# Altium footprint library eGPU Solusions Package.PcbLib: 47 footprints (part 2 of 3)
Each footprint in its own frame and in the unit in brackets; x right, y up, seen from the top. Pads: shape width x height; smd on the part's side, far side on the other; paste and mask are expansions set on the pad; w line width, h text height; cw(c..) or ccw(c..) is an arc to the next point about the centre after c.
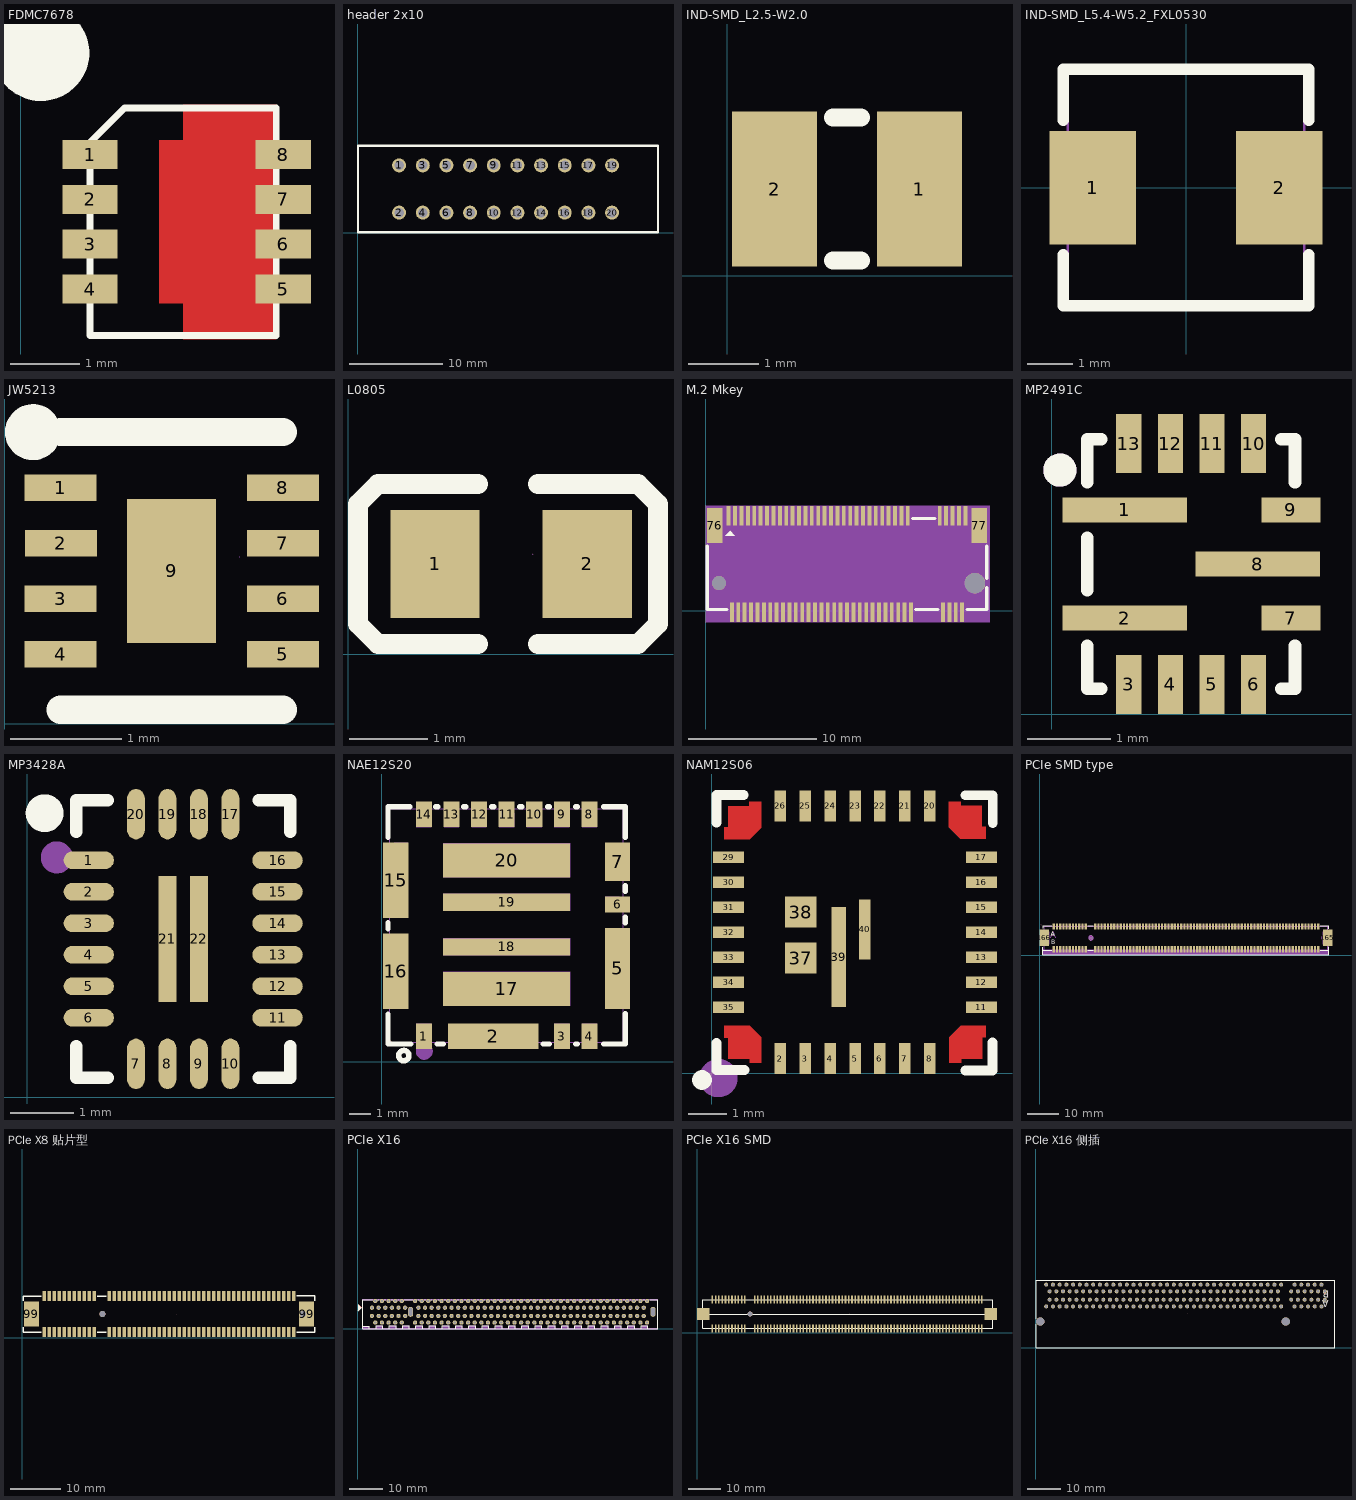
[diagram p1: the footprints below, top view; thin cyan lines are the x and y axes]

## FDMC7678 [mm]
pads (8):
  rect 0.8x0.42 smd: 1(1.006,2.965) 2(1.006,2.315) 3(1.006,1.665) 4(1.006,1.015) 5(3.806,1.015) 6(3.806,1.665) 7(3.806,2.315) 8(3.806,2.965)
Top Layer:
  region: 3.706,3.69 3.706,0.29 2.356,0.29 2.356,3.69
  region: 3.706,3.175 3.706,0.805 2.006,0.805 2.006,3.175
Top Overlay:
  circle w1: c0.293,4.442 r0.2
  lines w0.1: 1.006,0.34 1.006,3.14 1.506,3.64 3.706,3.64 3.706,0.34 1.006,0.34

## header 2x10 [mm]
pads (20):
  round 1.5 hole 1 mask+0.102: 1(4.466,7.216) 2(4.466,2.136) 3(7.006,7.216) 4(7.006,2.136) 5(9.546,7.216) 6(9.546,2.136) 7(12.086,7.216) 8(12.086,2.136) 9(14.626,7.216) 10(14.626,2.136) 11(17.166,7.216) 12(17.166,2.136) 13(19.706,7.216) 14(19.706,2.136) 15(22.246,7.216) 16(22.246,2.136) 17(24.786,7.216) 18(24.786,2.136) 19(27.326,7.216) 20(27.326,2.136)
Top Overlay:
  lines w0.254: 0.051,0.051 0.051,9.301 32.258,9.301 32.258,0.051 0.051,0.051

## IND-SMD_L2.5-W2.0 [mm]
pads (2):
  rect 1.2x2.2 smd paste+0 mask+0.051: 1(2.724,1.227) 2(0.668,1.227)
Top Overlay:
  lines w0.254: 1.499,0.211 1.893,0.211 ; 1.499,2.243 1.893,2.243

## IND-SMD_L5.4-W5.2_FXL0530 [mm]
pads (2):
  rect 1.9x2.5 smd: 1(-2.05,0) 2(2.05,0)
Top Overlay:
  lines w0.254: -2.7,-1.481 -2.7,-2.6 2.7,-2.6 2.7,-1.481 ; -2.7,1.481 -2.7,2.6 2.7,2.6 2.7,1.481
Mechanical 15:
  region: 2.7,-1.1 1.5,-1.1 1.5,1.1 2.7,1.1
  region: -2.7,1.1 -1.5,1.1 -1.5,-1.1 -2.7,-1.1
  region: -2.64,-2.6 -2.64,-2.575 -2.675,-2.54 -2.725,-2.54 -2.76,-2.575 -2.76,-2.6 -2.76,-2.625 -2.725,-2.66 -2.675,-2.66 -2.64,-2.625 -2.64,-2.6
  lines w0.051: -2.6,-2.6 -2.6,2.6 2.6,2.6 2.6,-2.6 -2.6,-2.6

## JW5213 [mm]
pads (9):
  rect 0.65x0.24 smd: 1(0.502,2.127) 2(0.504,1.625) 3(0.502,1.127) 4(0.502,0.627) 5(2.504,0.625) 6(2.504,1.126) 7(2.504,1.625) 8(2.504,2.126)
  rect 0.8x1.3 smd: 9(1.502,1.377)
Top Overlay:
  circle w0.254: c0.252,2.627 r0.125
  lines w0.254: 0.502,0.127 2.502,0.127 ; 0.502,2.627 2.502,2.627
Mechanical 15:
  lines w0.003: 2.113,1.504 2.113,1.504

## L0805 [mm]
pads (2):
  rect 1.133x1.377 smd: 1(1.106,1.143) 2(3.038,1.143)
Top Overlay:
  lines w0.254: 1.651,0.127 0.381,0.127 0.127,0.381 0.127,0.508 0.127,1.905 0.381,2.159 0.508,2.159 1.651,2.159 ; 2.413,0.127 3.556,0.127 3.683,0.127 3.937,0.381 3.937,1.778 3.937,1.905 3.683,2.159 2.413,2.159
Top Paste:
  region: 1.712,0.923 1.712,1.363 1.327,1.832 0.64,1.832 0.54,1.732 0.54,0.555 0.64,0.455 1.327,0.455
  region: 2.432,0.923 2.432,1.363 2.817,1.832 3.505,1.832 3.605,1.732 3.605,0.555 3.505,0.455 2.817,0.455
Mechanical 15:
  lines w0.003: 2.349,1.27 2.35,1.27

## M.2 Mkey [mm]
pads (71):
  rect 0.3x1.55 smd: 1(1.799,7.436) 2(2.049,-0.114) 3(2.299,7.436) 4(2.549,-0.114) 5(2.799,7.436) 6(3.049,-0.114) 7(3.299,7.436) 8(3.549,-0.114) 9(3.799,7.436) 10(4.049,-0.114) 11(4.299,7.436) 12(4.549,-0.114) 13(4.799,7.436) 14(5.049,-0.114) 15(5.299,7.436) 16(5.549,-0.114) 17(5.799,7.436) 18(6.049,-0.114) 19(6.299,7.436) 20(6.549,-0.114) 21(6.799,7.436) 22(7.049,-0.114) 23(7.299,7.436) 24(7.549,-0.114) 25(7.799,7.436) 26(8.049,-0.114) 27(8.299,7.436) 28(8.549,-0.114) 29(8.799,7.436) 30(9.049,-0.114) 31(9.299,7.436) 32(9.549,-0.114) 33(9.799,7.436) 34(10.049,-0.114) 35(10.299,7.436) 36(10.549,-0.114) 37(10.799,7.436) 38(11.049,-0.114) 39(11.299,7.436) 40(11.549,-0.114) 41(11.799,7.436) 42(12.049,-0.114) 43(12.299,7.436) 44(12.549,-0.114) 45(12.799,7.436) 46(13.049,-0.114) 47(13.299,7.436) 48(13.549,-0.114) 49(13.799,7.436) 50(14.049,-0.114) 51(14.299,7.436) 52(14.549,-0.114) 53(14.799,7.436) 54(15.049,-0.114) 55(15.299,7.436) 56(15.549,-0.114) 57(15.799,7.436) 58(16.049,-0.114) 67(18.299,7.436) 68(18.549,-0.114) 69(18.799,7.436) 70(19.049,-0.114) 71(19.299,7.436) 72(19.549,-0.114) 73(19.799,7.436) 74(20.049,-0.114) 75(20.299,7.436)
  rect 1.2x2.75 smd: 76(0.699,6.661) 77(21.399,6.661)
  round 1.1 hole 1.1 unplated: ""(1.049,2.161)
  round 1.6 hole 1.6 unplated: ""(21.049,2.161)
Top Overlay:
  region: 1.905,6.264 1.524,5.883 2.286,5.883
  lines w0.254: 0.127,5.055 0.127,0.105 1.668,0.105 ; 16.18,7.217 17.918,7.217 ; 16.43,0.105 18.168,0.105 ; 20.43,0.105 21.971,0.105 21.971,1.797 ; 21.971,2.525 21.971,5.055
Mechanical 4:
  circle w0.8: c21.049,2.161 r0.4
  circle w0.55: c1.049,2.161 r0.275
  region: 0,8.211 22.205,8.211 22.205,-0.889 0,-0.889
Mechanical 5:
  drawing of 71 lines, arcs and shapes, not listed
Mechanical 15:
  lines w0.003: 11.077,4.148 11.128,4.199

## MP2491C [mil]
pads (13):
  rect 59x12 smd: 1(34.63,96.69) 2(34.63,45.49) 8(97.71,71.09)
  rect 12x28 smd: 3(36.64,14) 4(56.33,14) 5(76.01,14) 6(95.7,14) 10(95.7,128.18) 11(76.01,128.18) 12(56.33,128.18) 13(36.64,128.18)
  rect 28x12 smd: 7(113.41,45.49) 9(113.41,96.69)
Top Overlay:
  circle w7.87: c3.94,115.58 r3.94
  lines w5.98: 16.93,32.4 16.93,12.04 23.55,12.04 ; 16.93,58.58 16.93,83.6 ; 16.93,109.78 16.93,130.15 23.55,130.15 ; 108.79,12.04 115.36,12.04 115.36,32.4 ; 108.79,130.15 114.97,130.15 ; 115.36,109.78 115.36,130.15
Mechanical 15:
  circle w7.87: c3.94,115.58 r3.94

## MP3428A [mm]
pads (22):
  oval 0.8x0.28 smd: 1(0.978,3.758) 2(0.978,3.258) 3(0.978,2.758) 4(0.978,2.258) 5(0.978,1.758) 6(0.978,1.258) 11(3.975,1.258) 12(3.975,1.758) 13(3.975,2.258) 14(3.975,2.758) 15(3.975,3.258) 16(3.975,3.758)
  oval 0.28x0.8 smd: 7(1.727,0.527) 8(2.227,0.527) 9(2.727,0.527) 10(3.227,0.527) 17(3.227,4.489) 18(2.727,4.489) 19(2.227,4.489) 20(1.727,4.489)
  rect 0.28x2 smd: 21(2.227,2.508) 22(2.727,2.508)
Top Overlay:
  lines w0.2: 0.777,0.808 0.777,0.308 1.277,0.308 ; 0.777,4.208 0.777,4.708 1.277,4.708 ; 3.677,0.308 4.177,0.308 4.177,0.808 ; 3.677,4.708 4.177,4.708 4.177,4.208
  lines w0.3: 0.427,4.505 cw(c0.277,4.506) 0.427,4.507
Mechanical 15:
  circle w0.254: c0.47,3.804 r0.127

## NAE12S20 [mm]
pads (20):
  rect 0.762x1.19 smd mask+0.05: 1(1.993,1.201) 3(8.493,1.201) 4(9.793,1.201) 8(9.793,11.651) 9(8.493,11.651) 10(7.193,11.651) 11(5.893,11.651) 12(4.593,11.651) 13(3.293,11.651) 14(1.993,11.651)
  rect 4.24x1.19 smd mask+0.05: 2(5.262,1.201)
  rect 1.195x3.81 smd mask+0.05: 5(11.116,4.401)
  rect 1.195x0.751 smd mask+0.05: 6(11.116,7.411)
  rect 1.195x1.82 smd mask+0.05: 7(11.116,9.425)
  rect 1.195x3.556 smd mask+0.05: 15(0.671,8.557) 16(0.67,4.258)
  rect 5.99x1.6 smd mask+0.05: 17(5.893,3.436) 20(5.893,9.486)
  rect 5.99x0.81 smd mask+0.05: 18(5.893,5.411) 19(5.893,7.511)
Top Overlay:
  circle w0.254: c1.049,0.289 r0.244
  lines w0.254: 0.305,2.249 0.305,0.838 1.387,0.838 ; 0.305,6.267 0.305,6.548 ; 0.305,10.566 0.305,12.014 1.333,12.014 ; 2.557,12.014 2.649,12.014 ; 2.611,0.838 2.911,0.838 ; 3.873,12.014 3.965,12.014 ; 5.189,12.014 5.281,12.014 ; 6.505,12.014 6.597,12.014 ; 7.613,0.838 7.913,0.838 ; 7.821,12.014 7.913,12.014 ; 9.137,0.838 9.229,0.838 ; 9.137,12.014 9.229,12.014 ; 10.453,0.838 11.481,0.838 11.481,2.265 ; 10.453,12.014 11.481,12.014 11.481,10.566 ; 11.481,6.537 11.481,6.804 ; 11.481,8.017 11.481,8.284
Mechanical 6:
  circle w0.4: c2.015,0.492 r0.2
Mechanical 15:
  region: 10.543,7.061 10.543,7.761 11.193,7.761 11.193,7.061
  region: 3.162,1.776 7.362,1.776 7.362,1.126 3.162,1.126
  region: 2.898,2.636 2.898,4.236 8.888,4.236 8.888,2.636
  region: 8.888,5.006 2.898,5.006 2.898,5.816 8.888,5.816
  region: 8.888,7.106 2.898,7.106 2.898,7.916 8.888,7.916
  region: 2.898,8.686 2.898,10.286 8.888,10.286 8.888,8.686
  region: 10.543,6.276 11.193,6.276 11.193,2.526 10.543,2.526
  region: 10.543,10.3 11.193,10.3 11.193,8.55 10.543,8.55
  region: 0.593,6.008 1.243,6.008 1.243,2.508 0.593,2.508
  region: 0.593,10.307 1.243,10.307 1.243,6.807 0.593,6.807
  region: 9.443,1.151 9.443,1.801 10.143,1.801 10.143,1.151
  region: 8.143,1.151 8.143,1.801 8.843,1.801 8.843,1.151
  region: 1.643,1.151 1.643,1.801 2.343,1.801 2.343,1.151
  region: 9.443,11.051 9.443,11.701 10.143,11.701 10.143,11.051
  region: 1.643,11.051 1.643,11.701 2.343,11.701 2.343,11.051
  region: 2.943,11.051 2.943,11.701 3.643,11.701 3.643,11.051
  region: 4.243,11.051 4.243,11.701 4.943,11.701 4.943,11.051
  region: 5.543,11.051 5.543,11.701 6.243,11.701 6.243,11.051
  region: 6.843,11.051 6.843,11.701 7.543,11.701 7.543,11.051
  region: 8.143,11.051 8.143,11.701 8.843,11.701 8.843,11.051
  region: 0.393,0.866 0.418,0.866 0.453,0.901 0.453,0.951 0.418,0.986 0.393,0.986 0.368,0.986 0.333,0.951 0.333,0.901 0.368,0.866
  lines w0.051: 0.393,0.926 11.393,0.926 11.393,11.926 0.393,11.926 0.393,0.926

## NAM12S06 [mm]
pads (32):
  rect 0.3x0.81 smd: 2(1.789,0.374) 3(2.439,0.374) 4(3.089,0.374) 5(3.739,0.374) 6(4.389,0.374) 7(5.039,0.374) 8(5.689,0.374) 20(5.689,6.964) 21(5.039,6.964) 22(4.389,6.964) 23(3.739,6.964) 24(3.089,6.964) 25(2.439,6.964) 26(1.789,6.964)
  rect 0.81x0.3 smd: 11(7.034,1.719) 12(7.034,2.369) 13(7.034,3.019) 14(7.034,3.669) 15(7.034,4.319) 16(7.034,4.969) 17(7.034,5.619) 29(0.444,5.619) 30(0.444,4.969) 31(0.444,4.319) 32(0.444,3.669) 33(0.444,3.019) 34(0.444,2.369) 35(0.444,1.719)
  rect 0.81x0.81 smd: 37(2.324,2.994) 38(2.324,4.194)
  rect 0.39x2.6 smd: 39(3.314,3.024)
  rect 0.3x1.57 smd: 40(3.989,3.744)
Top Layer:
  region: 6.179,7.069 6.179,6.409 6.479,6.109 7.149,6.109 7.149,6.419 7.049,6.419 7.039,6.419 7.039,6.429 7.039,6.969 6.499,6.969 6.489,6.969 6.489,6.979 6.489,7.069
  region: 1.299,0.269 1.299,0.929 0.999,1.229 0.329,1.229 0.329,0.919 0.429,0.919 0.439,0.919 0.439,0.909 0.439,0.369 0.979,0.369 0.989,0.369 0.989,0.359 0.989,0.269
  region: 0.329,6.099 0.989,6.099 1.289,6.399 1.289,7.069 0.979,7.069 0.979,6.969 0.979,6.959 0.969,6.959 0.429,6.959 0.429,6.419 0.429,6.409 0.419,6.409 0.329,6.409
  region: 7.152,1.239 6.492,1.239 6.192,0.939 6.192,0.269 6.502,0.269 6.502,0.369 6.502,0.379 6.512,0.379 7.052,0.379 7.052,0.919 7.052,0.929 7.062,0.929 7.152,0.929
Top Overlay:
  circle w0.254: c-0.251,-0.181 r0.13
  lines w0.254: 0.129,0.785 0.129,0.079 0.856,0.079 ; 0.129,6.522 0.129,7.249 0.835,7.249 ; 6.612,0.069 7.319,0.069 7.319,0.796 ; 6.619,7.239 7.326,7.239 7.326,6.512
Top Paste:
  region: 6.179,7.069 6.179,6.409 6.479,6.109 7.149,6.109 7.149,6.419 7.049,6.419 7.039,6.419 7.039,6.429 7.039,6.969 6.499,6.969 6.489,6.969 6.489,6.979 6.489,7.069
  region: 1.299,0.269 1.299,0.929 0.999,1.229 0.329,1.229 0.329,0.919 0.429,0.919 0.439,0.919 0.439,0.909 0.439,0.369 0.979,0.369 0.989,0.369 0.989,0.359 0.989,0.269
  region: 0.329,6.099 0.989,6.099 1.289,6.399 1.289,7.069 0.979,7.069 0.979,6.969 0.979,6.959 0.969,6.959 0.429,6.959 0.429,6.419 0.429,6.409 0.419,6.409 0.329,6.409
  region: 7.152,1.239 6.492,1.239 6.192,0.939 6.192,0.269 6.502,0.269 6.502,0.369 6.502,0.379 6.512,0.379 7.052,0.379 7.052,0.919 7.052,0.929 7.062,0.929 7.152,0.929
Top Solder:
  region: 6.179,7.069 6.179,6.409 6.479,6.109 7.149,6.109 7.149,6.419 7.049,6.419 7.039,6.419 7.039,6.429 7.039,6.969 6.499,6.969 6.489,6.969 6.489,6.979 6.489,7.069
  region: 1.299,0.269 1.299,0.929 0.999,1.229 0.329,1.229 0.329,0.919 0.429,0.919 0.439,0.919 0.439,0.909 0.439,0.369 0.979,0.369 0.989,0.369 0.989,0.359 0.989,0.269
  region: 0.329,6.099 0.989,6.099 1.289,6.399 1.289,7.069 0.979,7.069 0.979,6.969 0.979,6.959 0.969,6.959 0.429,6.959 0.429,6.419 0.429,6.409 0.419,6.409 0.329,6.409
  region: 7.152,1.239 6.492,1.239 6.192,0.939 6.192,0.269 6.502,0.269 6.502,0.369 6.502,0.379 6.512,0.379 7.052,0.379 7.052,0.919 7.052,0.929 7.062,0.929 7.152,0.929
Mechanical 15:
  circle w0.5: c0.179,-0.131 r0.25

## PCIe SMD type [mm]
pads (166):
  rect 3x5.2 smd mask+0.051: 165(90.5,5.407) 166(1.5,5.407)
  rect 0.7x2 smd mask+0.051: A1(4.5,9.007) A2(5.5,9.007) A3(6.5,9.007) A4(7.5,9.007) A5(8.5,9.007) A6(9.5,9.007) A7(10.5,9.007) A8(11.5,9.007) A9(12.5,9.007) A10(13.5,9.007) A11(14.5,9.007) A12(17.5,9.007) A13(18.5,9.007) A14(19.5,9.007) A15(20.5,9.007) A16(21.5,9.007) A17(22.5,9.007) A18(23.5,9.007) A19(24.5,9.007) A20(25.5,9.007) A21(26.5,9.007) A22(27.5,9.007) A23(28.5,9.007) A24(29.5,9.007) A25(30.5,9.007) A26(31.5,9.007) A27(32.5,9.007) A28(33.5,9.007) A29(34.5,9.007) A30(35.5,9.007) A31(36.5,9.007) A32(37.5,9.007) A33(38.5,9.007) A34(39.5,9.007) A35(40.5,9.007) A36(41.5,9.007) A37(42.5,9.007) A38(43.5,9.007) A39(44.5,9.007) A40(45.5,9.007) A41(46.5,9.007) A42(47.5,9.007) A43(48.5,9.007) A44(49.5,9.007) A45(50.5,9.007) A46(51.5,9.007) A47(52.5,9.007) A48(53.5,9.007) A49(54.5,9.007) A50(55.5,9.007) A51(56.5,9.007) A52(57.5,9.007) A53(58.5,9.007) A54(59.5,9.007) A55(60.5,9.007) A56(61.5,9.007) A57(62.5,9.007) A58(63.5,9.007) A59(64.5,9.007) A60(65.5,9.007) A61(66.5,9.007) A62(67.5,9.007) A63(68.5,9.007) A64(69.5,9.007) A65(70.5,9.007) A66(71.5,9.007) A67(72.5,9.007) A68(73.5,9.007) A69(74.5,9.007) A70(75.5,9.007) A71(76.5,9.007) A72(77.5,9.007) A73(78.5,9.007) A74(79.5,9.007) A75(80.5,9.007) A76(81.5,9.007) A77(82.5,9.007) A78(83.5,9.007) A79(84.5,9.007) A80(85.5,9.007) A81(86.5,9.007) A82(87.5,9.007) B1(4.5,1.807) B2(5.5,1.807) B3(6.5,1.807) B4(7.5,1.807) B5(8.5,1.807) B6(9.5,1.807) B7(10.5,1.807) B8(11.5,1.807) B9(12.5,1.807) B10(13.5,1.807) B11(14.5,1.807) B12(17.5,1.807) B13(18.5,1.807) B14(19.5,1.807) B15(20.5,1.807) B16(21.5,1.807) B17(22.5,1.807) B18(23.5,1.807) B19(24.5,1.807) B20(25.5,1.807) B21(26.5,1.807) B22(27.5,1.807) B23(28.5,1.807) B24(29.5,1.807) B25(30.5,1.807) B26(31.5,1.807) B27(32.5,1.807) B28(33.5,1.807) B29(34.5,1.807) B30(35.5,1.807) B31(36.5,1.807) B32(37.5,1.807) B33(38.5,1.807) B34(39.5,1.807) B35(40.5,1.807) B36(41.5,1.807) B37(42.5,1.807) B38(43.5,1.807) B39(44.5,1.807) B40(45.5,1.807) B41(46.5,1.807) B42(47.5,1.807) B43(48.5,1.807) B44(49.5,1.807) B45(50.5,1.807) B46(51.5,1.807) B47(52.5,1.807) B48(53.5,1.807) B49(54.5,1.807) B50(55.5,1.807) B51(56.5,1.807) B52(57.5,1.807) B53(58.5,1.807) B54(59.5,1.807) B55(60.5,1.807) B56(61.5,1.807) B57(62.5,1.807) B58(63.5,1.807) B59(64.5,1.807) B60(65.5,1.807) B61(66.5,1.807) B62(67.5,1.807) B63(68.5,1.807) B64(69.5,1.807) B65(70.5,1.807) B66(71.5,1.807) B67(72.5,1.807) B68(73.5,1.807) B69(74.5,1.807) B70(75.5,1.807) B71(76.5,1.807) B72(77.5,1.807) B73(78.5,1.807) B74(79.5,1.807) B75(80.5,1.807) B76(81.5,1.807) B77(82.5,1.807) B78(83.5,1.807) B79(84.5,1.807) B80(85.5,1.807) B81(86.5,1.807) B82(87.5,1.807)
Top Overlay:
  lines w0.254: 1.05,1.547 3.919,1.547 ; 1.05,2.477 1.05,0.147 90.84,0.147 ; 1.18,8.407 1.18,9.297 3.919,9.297 ; 15.081,1.547 16.919,1.547 ; 15.081,9.297 16.919,9.297 ; 88.081,1.547 90.84,1.547 90.84,0.147 ; 88.081,9.297 90.81,9.297 90.81,8.277 ; 90.84,2.637 90.84,0.147
  text "A" at 3.5,5.853 h1.33
  text "B" at 3.631,3.405 h1.33
Keep-Out Layer:
  board cut-out: 16.85,5.407 16.85,5.499 16.802,5.677 16.71,5.837 16.58,5.967 16.42,6.059 16.242,6.107 16.058,6.107 15.88,6.059 15.72,5.967 15.59,5.837 15.498,5.677 15.45,5.499 15.45,5.407 15.45,5.315 15.498,5.137 15.59,4.977 15.72,4.847 15.88,4.755 16.058,4.707 16.242,4.707 16.42,4.755 16.58,4.847 16.71,4.977 16.802,5.137 16.85,5.315
  board cut-out: 90,5.407 90,5.499 89.952,5.677 89.86,5.837 89.73,5.967 89.57,6.059 89.392,6.107 89.208,6.107 89.03,6.059 88.87,5.967 88.74,5.837 88.648,5.677 88.6,5.499 88.6,5.407 88.6,5.315 88.648,5.137 88.74,4.977 88.87,4.847 89.03,4.755 89.208,4.707 89.392,4.707 89.57,4.755 89.73,4.847 89.86,4.977 89.952,5.137 90,5.315
Mechanical 1:
  circle w0.005: c16.15,5.407 r0.7
  circle w0.005: c89.3,5.407 r0.7
Mechanical 6:
  circle w0.5: c89.3,5.407 r0.25
  circle w0.5: c16.15,5.407 r0.25
  region: 1.13,1.817 90.86,1.727 90.86,0.127 1.11,0.177
  region: 3.54,5.427 3.67,5.707 3.81,6.057 4.67,6.057 4.91,5.437 5.03,5.427 5.07,5.527 4.32,7.527 4.26,7.547 4.2,7.547 4.14,7.487 4.25,7.157 4.59,6.267 3.91,6.277 4.22,7.147 4.12,7.467 3.37,5.527 3.46,5.427
Mechanical 15:
  drawing of 171 lines, arcs and shapes, not listed

## PCIe X8 贴片型 [mm]
pads (102):
  rect 0.7x2 smd: 1(4.342,8.308) 2(5.342,8.308) 3(6.342,8.308) 4(7.342,8.308) 5(8.342,8.308) 6(9.342,8.308) 7(10.342,8.308) 8(11.342,8.308) 9(12.342,8.308) 10(13.342,8.308) 11(14.342,8.308) 12(17.342,8.308) 13(18.342,8.308) 14(19.342,8.308) 15(20.342,8.308) 16(21.342,8.308) 17(22.342,8.308) 18(23.342,8.308) 19(24.342,8.308) 20(25.342,8.308) 21(26.342,8.308) 22(27.342,8.308) 23(28.342,8.308) 24(29.342,8.308) 25(30.342,8.308) 26(31.342,8.308) 27(32.342,8.308) 28(33.342,8.308) 29(34.342,8.308) 30(35.342,8.308) 31(36.342,8.308) 32(37.342,8.308) 33(38.342,8.308) 34(39.342,8.308) 35(40.342,8.308) 36(41.342,8.308) 37(42.342,8.308) 38(43.342,8.308) 39(44.342,8.308) 40(45.342,8.308) 41(46.342,8.308) 42(47.342,8.308) 43(48.342,8.308) 44(49.342,8.308) 45(50.342,8.308) 46(51.342,8.308) 47(52.342,8.308) 48(53.342,8.308) 49(54.342,8.308) 50(4.342,1.109) 51(5.342,1.109) 52(6.342,1.109) 53(7.342,1.109) 54(8.342,1.109) 55(9.342,1.109) 56(10.342,1.109) 57(11.342,1.109) 58(12.342,1.109) 59(13.342,1.109) 60(14.342,1.109) 61(17.342,1.109) 62(18.342,1.109) 63(19.342,1.109) 64(20.342,1.109) 65(21.342,1.109) 66(22.342,1.109) 67(23.342,1.109) 68(24.342,1.109) 69(25.342,1.109) 70(26.342,1.109) 71(27.342,1.109) 72(28.342,1.109) 73(29.342,1.109) 74(30.342,1.109) 75(31.342,1.109) 76(32.342,1.109) 77(33.342,1.109) 78(34.342,1.109) 79(35.342,1.109) 80(36.342,1.109) 81(37.342,1.109) 82(38.342,1.109) 83(39.342,1.109) 84(40.342,1.109) 85(41.342,1.109) 86(42.342,1.109) 87(43.342,1.109) 88(44.342,1.109) 89(45.342,1.109) 90(46.342,1.109) 91(47.342,1.109) 92(48.342,1.109) 93(49.342,1.109) 94(50.342,1.109) 95(51.342,1.109) 96(52.342,1.109) 97(53.342,1.109) 98(54.342,1.109)
  rect 3.08x5 smd: 99(1.802,4.709) 99(56.872,4.709)
  round 1.2 hole 1.2 unplated: ""(15.992,4.709) ""(56.142,4.709)
Top Overlay:
  lines w0.254: 0.127,2.022 0.127,1.026 3.761,1.026 ; 0.127,7.395 0.127,8.265 3.761,8.265 ; 14.923,1.026 16.761,1.026 ; 14.923,8.265 16.761,8.265 ; 54.923,1.026 58.547,1.026 58.547,2.022 ; 54.923,8.392 58.547,8.392 58.547,7.395
Mechanical 15:
  lines w0.003: 30.924,4.59 30.925,4.591

## PCIe X16 [mm]
pads (166):
  round 1.3 hole 0.7: A1(4.348,6.35) A2(5.348,8.35) A3(6.348,6.35) A4(7.348,8.35) A5(8.348,6.35) A6(9.348,8.35) A7(10.348,6.35) A8(11.348,8.35) A9(12.348,6.35) A10(13.348,8.35) A11(14.348,6.35) A12(17.348,8.35) A13(18.348,6.35) A14(19.348,8.35) A15(20.348,6.35) A16(21.348,8.35) A17(22.348,6.35) A18(23.348,8.35) A19(24.348,6.35) A20(25.348,8.35) A21(26.348,6.35) A22(27.348,8.35) A23(28.348,6.35) A24(29.348,8.35) A25(30.348,6.35) A26(31.348,8.35) A27(32.348,6.35) A28(33.348,8.35) A29(34.348,6.35) A30(35.348,8.35) A31(36.348,6.35) A32(37.348,8.35) A33(38.348,6.35) A34(39.348,8.35) A35(40.348,6.35) A36(41.348,8.35) A37(42.348,6.35) A38(43.348,8.35) A39(44.348,6.35) A40(45.348,8.35) A41(46.348,6.35) A42(47.348,8.35) A43(48.348,6.35) A44(49.348,8.35) A45(50.348,6.35) A46(51.348,8.35) A47(52.348,6.35) A48(53.348,8.35) A49(54.348,6.35) A50(55.348,8.35) A51(56.348,6.35) A52(57.348,8.35) A53(58.348,6.35) A54(59.348,8.35) A55(60.348,6.35) A56(61.348,8.35) A57(62.348,6.35) A58(63.348,8.35) A59(64.348,6.35) A60(65.348,8.35) A61(66.348,6.35) A62(67.348,8.35) A63(68.348,6.35) A64(69.348,8.35) A65(70.348,6.35) A66(71.348,8.35) A67(72.348,6.35) A68(73.348,8.35) A69(74.348,6.35) A70(75.348,8.35) A71(76.348,6.35) A72(77.348,8.35) A73(78.348,6.35) A74(79.348,8.35) A75(80.348,6.35) A76(81.348,8.35) A77(82.348,6.35) A78(83.348,8.35) A79(84.348,6.35) A80(85.348,8.35) A81(86.348,6.35) A82(87.348,8.35) B1(4.348,3.85) B2(5.348,1.85) B3(6.348,3.85) B4(7.348,1.85) B5(8.348,3.85) B6(9.348,1.85) B7(10.348,3.85) B8(11.348,1.85) B9(12.348,3.85) B10(13.348,1.85) B11(14.348,3.85) B12(17.348,1.85) B13(18.348,3.85) B14(19.348,1.85) B15(20.348,3.85) B16(21.348,1.85) B17(22.348,3.85) B18(23.348,1.85) B19(24.348,3.85) B20(25.348,1.85) B21(26.348,3.85) B22(27.348,1.85) B23(28.348,3.85) B24(29.348,1.85) B25(30.348,3.85) B26(31.348,1.85) B27(32.348,3.85) B28(33.348,1.85) B29(34.348,3.85) B30(35.348,1.85) B31(36.348,3.85) B32(37.348,1.85) B33(38.348,3.85) B34(39.348,1.85) B35(40.348,3.85) B36(41.348,1.85) B37(42.348,3.85) B38(43.348,1.85) B39(44.348,3.85) B40(45.348,1.85) B41(46.348,3.85) B42(47.348,1.85) B43(48.348,3.85) B44(49.348,1.85) B45(50.348,3.85) B46(51.348,1.85) B47(52.348,3.85) B48(53.348,1.85) B49(54.348,3.85) B50(55.348,1.85) B51(56.348,3.85) B52(57.348,1.85) B53(58.348,3.85) B54(59.348,1.85) B55(60.348,3.85) B56(61.348,1.85) B57(62.348,3.85) B58(63.348,1.85) B59(64.348,3.85) B60(65.348,1.85) B61(66.348,3.85) B62(67.348,1.85) B63(68.348,3.85) B64(69.348,1.85) B65(70.348,3.85) B66(71.348,1.85) B67(72.348,3.85) B68(73.348,1.85) B69(74.348,3.85) B70(75.348,1.85) B71(76.348,3.85) B72(77.348,1.85) B73(78.348,3.85) B74(79.348,1.85) B75(80.348,3.85) B76(81.348,1.85) B77(82.348,3.85) B78(83.348,1.85) B79(84.348,3.85) B80(85.348,1.85) B81(86.348,3.85) B82(87.348,1.85)
  oval 1.6x3 hole 1 slot 2.35 at 90 deg: EP(15.998,5.1) EP(89.147,5.1)
Top Overlay:
  region: 0.128,7.18 0.128,5.469 0.147,5.449 1.039,6.341
  lines w0.254: 0.127,7.179 1.039,6.341 0.147,5.449 0.128,7.18 ; 1.498,0.81 3.528,0.81 3.528,0 ; 1.498,0.825 1.498,0 ; 4.548,8.775 1.498,8.775 1.498,0 ; 5.578,0 5.578,0.83 7.608,0.83 7.608,0.02 ; 6.118,8.775 6.575,8.775 ; 8.111,8.775 8.568,8.775 ; 9.578,0 9.578,0.83 11.608,0.83 11.608,0.02 ; 10.104,8.775 10.561,8.775 ; 12.098,8.775 12.555,8.775 ; 13.578,0 13.578,0.83 15.608,0.83 15.608,0.02 ; 14.128,8.775 16.585,8.775 ; 17.578,0 17.578,0.83 19.608,0.83 19.608,0.02 ; 18.118,8.775 18.575,8.775 ; 20.118,8.775 20.575,8.775 ; 21.578,0 21.578,0.83 23.608,0.83 23.608,0.02 ; 22.118,8.775 22.575,8.775 ; 24.118,8.775 24.575,8.775 ; 25.578,0 25.578,0.83 27.608,0.83 27.608,0.02 ; 26.118,8.775 26.575,8.775 ; 28.118,8.775 28.575,8.775 ; 29.578,0 29.578,0.83 31.608,0.83 31.608,0.02 ; 30.118,8.775 30.575,8.775 ; 32.118,8.775 32.575,8.775 ; 33.578,0 33.578,0.83 35.608,0.83 35.608,0.02 ; 34.118,8.775 34.575,8.775 ; 36.118,8.775 36.575,8.775 ; 37.578,0 37.578,0.83 39.608,0.83 39.608,0.02 ; 38.117,8.775 38.574,8.775 ; 40.117,8.775 40.574,8.775 ; 41.578,0 41.578,0.83 43.608,0.83 43.608,0.02 ; 42.118,8.775 42.575,8.775 ; 44.118,8.775 44.575,8.775 ; 45.578,0 45.578,0.83 47.608,0.83 47.608,0.02 ; 46.118,8.775 46.575,8.775 ; 48.118,8.775 48.575,8.775 ; 49.578,0 49.578,0.83 51.608,0.83 51.608,0.02 ; 50.118,8.775 50.575,8.775 ; 52.118,8.775 52.575,8.775 ; 53.578,0 53.578,0.83 55.608,0.83 55.608,0.02 ; 54.118,8.775 54.575,8.775 ; 56.118,8.775 56.575,8.775 ; 57.578,0 57.578,0.83 59.608,0.83 59.608,0.02 ; 58.118,8.775 58.575,8.775 ; 60.118,8.775 60.575,8.775 ; 61.578,0 61.578,0.83 63.608,0.83 63.608,0.02 ; 62.118,8.775 62.575,8.775 ; 64.118,8.775 64.575,8.775 ; 65.578,0 65.578,0.83 67.608,0.83 67.608,0.02 ; 66.118,8.775 66.575,8.775 ; 68.118,8.775 68.575,8.775 ; 69.578,0 69.578,0.83 71.608,0.83 71.608,0.02 ; 70.118,8.775 70.575,8.775 ; 72.118,8.775 72.575,8.775 ; 73.578,0 73.578,0.83 75.608,0.83 75.608,0.02 ; 74.118,8.775 74.575,8.775 ; 76.118,8.775 76.575,8.775 ; 77.578,0 77.578,0.83 79.608,0.83 79.608,0.02 ; 78.118,8.775 78.575,8.775 ; 80.117,8.775 80.574,8.775 ; 81.578,0 81.578,0.83 83.608,0.83 83.608,0.02 ; 82.118,8.775 82.575,8.775 ; 84.118,8.775 84.575,8.775 ; 85.578,0 85.578,0.83 87.608,0.83 87.608,0.02 ; 86.118,8.775 86.575,8.775 ; 88.148,8.775 90.498,8.775 90.498,0 1.498,0
Mechanical 15:
  region: 0.128,7.18 0.128,5.469 0.147,5.449 1.039,6.341
  region: 85.698,0.83 87.608,0.83 87.608,0.14 85.698,0.14
  region: 81.698,0.83 83.608,0.83 83.608,0.14 81.698,0.14
  region: 77.698,0.83 79.608,0.83 79.608,0.14 77.698,0.14
  region: 73.698,0.83 75.608,0.83 75.608,0.14 73.698,0.14
  region: 69.698,0.83 71.608,0.83 71.608,0.14 69.698,0.14
  region: 65.698,0.83 67.608,0.83 67.608,0.14 65.698,0.14
  region: 61.698,0.83 63.608,0.83 63.608,0.14 61.698,0.14
  region: 57.698,0.83 59.608,0.83 59.608,0.14 57.698,0.14
  region: 53.698,0.83 55.608,0.83 55.608,0.14 53.698,0.14
  region: 49.698,0.83 51.608,0.83 51.608,0.14 49.698,0.14
  region: 45.698,0.83 47.608,0.83 47.608,0.14 45.698,0.14
  region: 41.698,0.83 43.608,0.83 43.608,0.14 41.698,0.14
  region: 37.698,0.83 39.608,0.83 39.608,0.14 37.698,0.14
  region: 33.698,0.83 35.608,0.83 35.608,0.14 33.698,0.14
  region: 29.698,0.83 31.608,0.83 31.608,0.14 29.698,0.14
  region: 25.698,0.83 27.608,0.83 27.608,0.14 25.698,0.14
  region: 21.698,0.83 23.608,0.83 23.608,0.14 21.698,0.14
  region: 17.698,0.83 19.608,0.83 19.608,0.14 17.698,0.14
  region: 13.698,0.83 15.608,0.83 15.608,0.14 13.698,0.14
  region: 9.698,0.83 11.608,0.83 11.608,0.14 9.698,0.14
  region: 5.698,0.83 7.608,0.83 7.608,0.14 5.698,0.14
  region: 1.618,0.81 3.528,0.81 3.528,0.12 1.618,0.12
  region: 1.478,8.9 1.378,8.8 1.378,-0.04 1.458,-0.12 90.528,-0.12 90.618,-0.03 90.618,8.81 90.528,8.9 1.578,8.9 1.578,8.85 1.678,8.65 90.378,8.65 90.378,0.12 1.618,0.12 1.618,8.75

## PCIe X16 SMD [mil]
pads (167):
  rect 20x100 smd: A1(182,405) A2(222,405) A3(261,405) A4(300,405) A5(340,405) A6(379,405) A7(419,405) A8(458,405) A9(497,405) A10(537,405) A11(576,405) A12(694,405) A13(734,405) A14(773,405) A15(812,405) A16(852,405) A17(891,405) A18(931,405) A19(970,405) A20(1009,405) A21(1049,405) A22(1088,405) A23(1128,405) A24(1167,405) A25(1206,405) A26(1246,405) A27(1285,405) A28(1325,405) A29(1364,405) A30(1403,405) A31(1443,405) A32(1482,405) A33(1522,405) A34(1561,405) A35(1600,405) A36(1640,405) A37(1679,405) A38(1719,405) A39(1758,405) A40(1797,405) A41(1837,405) A42(1876,405) A43(1916,405) A44(1955,405) A45(1994,405) A46(2034,405) A47(2073,405) A48(2113,405) A49(2152,405) A50(2191,405) A51(2231,405) A52(2270,405) A53(2310,405) A54(2349,405) A55(2388,405) A56(2428,405) A57(2467,405) A58(2507,405) A59(2546,405) A60(2585,405) A61(2625,405) A62(2664,405) A63(2704,405) A64(2743,405) A65(2782,405) A66(2822,405) A67(2861,405) A68(2901,405) A69(2940,405) A70(2979,405) A71(3019,405) A72(3058,405) A73(3098,405) A74(3137,405) A75(3176,405) A76(3216,405) A77(3255,405) A78(3295,405) A79(3334,405) A80(3373,405) A81(3413,405) A82(3452,405) B1(182,55) B2(222,55) B3(261,55) B4(300,55) B5(340,55) B6(379,55) B7(419,55) B8(458,55) B9(497,55) B10(537,55) B11(576,55) B12(694,55) B13(734,55) B14(773,55) B15(812,55) B16(852,55) B17(891,55) B18(931,55) B19(970,55) B20(1009,55) B21(1049,55) B22(1088,55) B23(1128,55) B24(1167,55) B25(1206,55) B26(1246,55) B27(1285,55) B28(1325,55) B29(1364,55) B30(1403,55) B31(1443,55) B32(1482,55) B33(1522,55) B34(1561,55) B35(1600,55) B36(1640,55) B37(1679,55) B38(1719,55) B39(1758,55) B40(1797,55) B41(1837,55) B42(1876,55) B43(1916,55) B44(1955,55) B45(1994,55) B46(2034,55) B47(2073,55) B48(2113,55) B49(2152,55) B50(2191,55) B51(2231,55) B52(2270,55) B53(2310,55) B54(2349,55) B55(2388,55) B56(2428,55) B57(2467,55) B58(2507,55) B59(2546,55) B60(2585,55) B61(2625,55) B62(2664,55) B63(2704,55) B64(2743,55) B65(2782,55) B66(2822,55) B67(2861,55) B68(2901,55) B69(2940,55) B70(2979,55) B71(3019,55) B72(3058,55) B73(3098,55) B74(3137,55) B75(3176,55) B76(3216,55) B77(3255,55) B78(3295,55) B79(3334,55) B80(3373,55) B81(3413,55) B82(3452,55)
  rect 150x150 smd: GND(70,230) GND(3561,230)
  round 60 hole 60 unplated: ""(640,230)
Top Overlay:
  lines w6: 64,230 97,230 3582,230 ; 64,57 3582,57 3582,403 64,403 64,57
Mechanical 15:
  lines w0.1: 1845.49,234.99 1845.51,235.01

## PCIe X16 侧插 [mm]
pads (166):
  round 1.2 hole 0.8: A1(86.127,14.377) A2(85.127,12.377) A3(84.127,14.377) A4(83.127,12.377) A5(82.127,14.377) A6(81.127,12.377) A7(80.127,14.377) A8(79.127,12.377) A9(78.127,14.377) A10(77.127,12.377) A11(76.127,14.377) A12(73.127,12.377) A13(72.127,14.377) A14(71.127,12.377) A15(70.127,14.377) A16(69.127,12.377) A17(68.127,14.377) A18(67.127,12.377) A19(66.127,14.377) A20(65.127,12.377) A21(64.127,14.377) A22(63.127,12.377) A23(62.127,14.377) A24(61.127,12.377) A25(60.127,14.377) A26(59.127,12.377) A27(58.127,14.377) A28(57.127,12.377) A29(56.127,14.377) A30(55.127,12.377) A31(54.127,14.377) A32(53.127,12.377) A33(52.127,14.377) A34(51.127,12.377) A35(50.127,14.377) A36(49.127,12.377) A37(48.127,14.377) A38(47.127,12.377) A39(46.127,14.377) A40(45.127,12.377) A41(44.127,14.377) A42(43.127,12.377) A43(42.127,14.377) A44(41.127,12.377) A45(40.127,14.377) A46(39.127,12.377) A47(38.127,14.377) A48(37.127,12.377) A49(36.127,14.377) A50(35.127,12.377) A51(34.127,14.377) A52(33.127,12.377) A53(32.127,14.377) A54(31.127,12.377) A55(30.127,14.377) A56(29.127,12.377) A57(28.127,14.377) A58(27.127,12.377) A59(26.127,14.377) A60(25.127,12.377) A61(24.127,14.377) A62(23.127,12.377) A63(22.127,14.377) A64(21.127,12.377) A65(20.127,14.377) A66(19.127,12.377) A67(18.127,14.377) A68(17.127,12.377) A69(16.127,14.377) A70(15.127,12.377) A71(14.127,14.377) A72(13.127,12.377) A73(12.127,14.377) A74(11.127,12.377) A75(10.127,14.377) A76(9.127,12.377) A77(8.127,14.377) A78(7.127,12.377) A79(6.127,14.377) A80(5.127,12.377) A81(4.127,14.377) A82(3.127,12.377) B1(86.127,16.877) B2(85.127,18.877) B3(84.127,16.877) B4(83.127,18.877) B5(82.127,16.877) B6(81.127,18.877) B7(80.127,16.877) B8(79.127,18.877) B9(78.127,16.877) B10(77.127,18.877) B11(76.127,16.877) B12(73.127,18.877) B13(72.127,16.877) B14(71.127,18.877) B15(70.127,16.877) B16(69.127,18.877) B17(68.127,16.877) B18(67.127,18.877) B19(66.127,16.877) B20(65.127,18.877) B21(64.127,16.877) B22(63.127,18.877) B23(62.127,16.877) B24(61.127,18.877) B25(60.127,16.877) B26(59.127,18.877) B27(58.127,16.877) B28(57.127,18.877) B29(56.127,16.877) B30(55.127,18.877) B31(54.127,16.877) B32(53.127,18.877) B33(52.127,16.877) B34(51.127,18.877) B35(50.127,16.877) B36(49.127,18.877) B37(48.127,16.877) B38(47.127,18.877) B39(46.127,16.877) B40(45.127,18.877) B41(44.127,16.877) B42(43.127,18.877) B43(42.127,16.877) B44(41.127,18.877) B45(40.127,16.877) B46(39.127,18.877) B47(38.127,16.877) B48(37.127,18.877) B49(36.127,16.877) B50(35.127,18.877) B51(34.127,16.877) B52(33.127,18.877) B53(32.127,16.877) B54(31.127,18.877) B55(30.127,16.877) B56(29.127,18.877) B57(28.127,16.877) B58(27.127,18.877) B59(26.127,16.877) B60(25.127,18.877) B61(24.127,16.877) B62(23.127,18.877) B63(22.127,16.877) B64(21.127,18.877) B65(20.127,16.877) B66(19.127,18.877) B67(18.127,16.877) B68(17.127,18.877) B69(16.127,16.877) B70(15.127,18.877) B71(14.127,16.877) B72(13.127,18.877) B73(12.127,16.877) B74(11.127,18.877) B75(10.127,16.877) B76(9.127,18.877) B77(8.127,16.877) B78(7.127,18.877) B79(6.127,16.877) B80(5.127,18.877) B81(4.127,16.877) B82(3.127,18.877)
  round 2.5 hole 2.5 unplated: ""(1.327,7.877) ""(74.477,7.877)
Top Overlay:
  lines w0.254: 0.127,7.078 0.127,0.127 89.127,0.127 89.127,20.127 0.127,20.127 0.127,8.676
  text "B" at 87.437,17.07 h2.03
  text "A" at 87.337,14.249 h2.03
Mechanical 15:
  lines w0.003: 45.262,10.254 45.262,10.254